# Altium footprint library con-friwo.PCBLIB: 1 footprints
Each footprint in its own frame and in the unit in brackets; x right, y up, seen from the top. Pads: shape width x height; smd on the part's side, far side on the other; paste and mask are expansions set on the pad; w line width, h text height; cw(c..) or ccw(c..) is an arc to the next point about the centre after c.
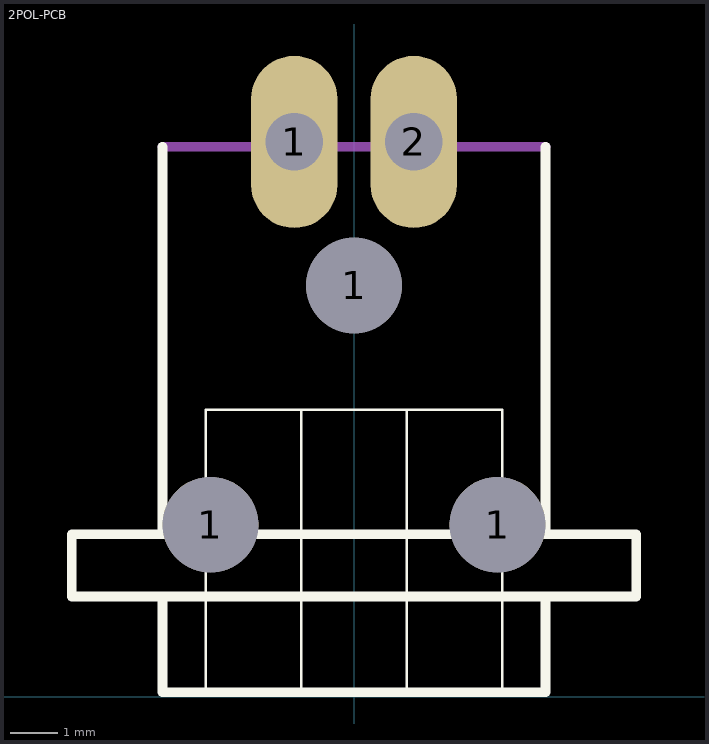
[diagram p0: the footprint, top view; thin cyan lines are the x and y axes]

## 2POL-PCB [mm]
pads (5):
  round 2 hole 2: 1(-3,3.6) 1(0,8.6) 1(3,3.6)
  oval 1.8x3.6 hole 1.2: 1(-1.25,11.6) 2(1.25,11.6)
Top Overlay:
  lines w0.051: -3.1,0.2 -3.1,6 -1.1,6 ; -1.1,0.2 -1.1,6 ; 1.1,0.2 1.1,6 ; 3.1,0.2 3.1,6 1.1,6 ; -1.1,6 1.1,6
  lines w0.203: -4,11.5 -4,3.4 ; 4,11.5 4,3.4 ; -4,2.1 -4,0.1 4,0.1 4,2.1 ; -4,2.1 -5.9,2.1 -5.9,3.4 -4,3.4 ; -4,2.1 4,2.1 ; -4,3.4 4,3.4 ; 4,2.1 5.9,2.1 5.9,3.4 4,3.4
Mechanical 16:
  lines w0.203: -4,11.5 4,11.5